# EAGLE library part SW_DPDT (library OAlib)
Dip Switch SPDTSurface Mount Slide Switch Source: Datasheet <http://www.nidec-copal-electronics.com/e/catalog/switch/cas.pdf>
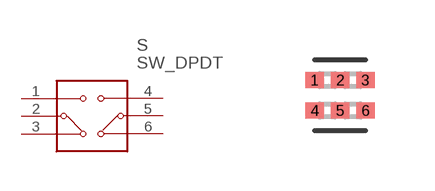
[diagram p6: symbol with the pads of SW_DPDT; footprint SW_DPDT]

Designator prefix S

## SW_DPDT  [SW_DPDT]
1  1
2  2
3  3
4  4
5  5
6  6

## Footprint SW_DPDT (pad centres in mm)
smd 0.455 x 0.397: 1 -0.635,0.381; 2 0,0.381; 3 0.635,0.381; 4 -0.635,-0.381; 5 0,-0.381; 6 0.635,-0.381